# EAGLE library part GPS-ATGM336H (library pinebook_parts)
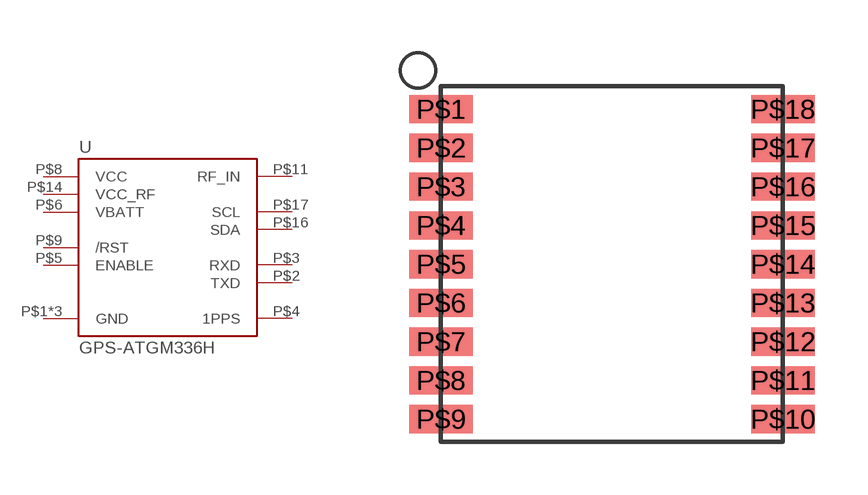
[diagram p3: symbol with the pads of ATGM336H; footprint ATGM336H]

Designator prefix -

## GPS-ATGM336H  [ATGM336H]
P$1  GND
P$2  TXD
P$3  RXD
P$4  1PPS
P$5  ENABLE
P$6  VBATT
P$8  VCC
P$9  /RST
P$10  GND
P$11  RF_IN
P$12  GND
P$14  VCC_RF
P$16  SDA
P$17  SCL

## Footprint ATGM336H (pad centres in mm)
smd 1.8 x 0.8: P$1 -4.85,4.4; P$2 -4.85,3.3; P$3 -4.85,2.2; P$4 -4.85,1.1; P$5 -4.85,0; P$6 -4.85,-1.1; P$7 -4.85,-2.2; P$8 -4.85,-3.3; P$9 -4.85,-4.4; P$10 4.85,-4.4; P$11 4.85,-3.3; P$12 4.85,-2.2; P$13 4.85,-1.1; P$14 4.85,0; P$15 4.85,1.1; P$16 4.85,2.2; P$17 4.85,3.3; P$18 4.85,4.4